# Altium footprint library PCB - RESISTOR - ARRAY - RESNET 0804-8 CONCAVE.PcbLib: 1 footprints
Each footprint in its own frame and in the unit in brackets; x right, y up, seen from the top. Pads: shape width x height; smd on the part's side, far side on the other; paste and mask are expansions set on the pad; w line width, h text height; cw(c..) or ccw(c..) is an arc to the next point about the centre after c.
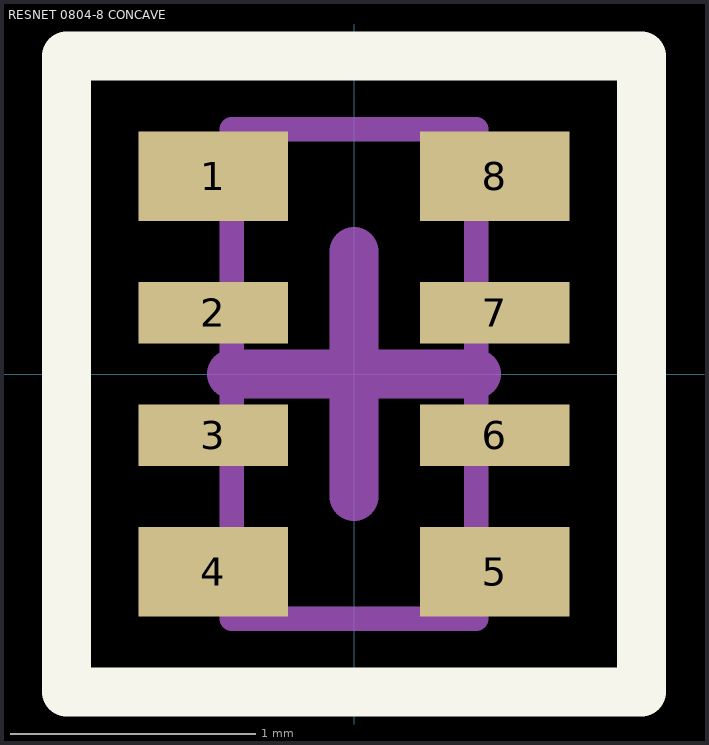
[diagram p0: the footprint, top view; thin cyan lines are the x and y axes]

## RESNET 0804-8 CONCAVE [mm] "4 resistor 2.0x1.0mm, 0.5mm high"
height 0.5
pads (8):
  rect 0.61x0.365 smd: 1(-0.575,0.808) 4(-0.575,-0.808) 5(0.575,-0.808) 8(0.575,0.808)
  rect 0.61x0.25 smd: 2(-0.575,0.25) 3(-0.575,-0.25) 6(0.575,-0.25) 7(0.575,0.25)
Top Overlay:
  lines w0.2: -1.175,-1.3 1.175,-1.3 1.175,1.3 -1.175,1.3 -1.175,-1.3
Mechanical 13 (Mech13):
  lines w0.1: -0.5,-1 0.5,-1 0.5,1 -0.5,1 -0.5,-1
Mechanical 15:
  lines w0.05: -1.1,-1.3 -1.1,1.3 1.1,1.3 1.1,-1.3 -1.1,-1.3
  lines w0.2: -0.5,0 0.5,0 ; 0,-0.5 0,0.5
3D body "RESNET - 0804 Concave.step": height 0.51, standoff 0, extent -0.525,-1.025 0.525,1.025